# EAGLE library part WE-LAN_749020112B (library WE-LAN)
WE-LAN LAN Transformer 10/100 Base-T Characteristics Power over Ethernet up to 150 Watts and speeds up to 1 Gbit/s Available in SMD Compliant with standards: IEEE 802.3u, IEEE 802.3ab, IEEE 802.3af, IEEE 802.3at and upcoming IEEE 802.3bt Applications Suitable for industrial temperatures from –40 °C up to +125 °C Compatible to Industrial Ethernet systems like EtherCAT or Profinet Compliant with most IC’s for Ethernet applications such as Microchip, Texas Instruments, Broadcom, Linear Technology Hubs, Routers, Switches, IP cameras, IoT applications <https://katalog.we-online.com/media/images/v2/o14800v209%20WE-LAN%20-%20Kopie.jpg> Details see: https://katalog.we-online.com/en/pbs/WE-LAN Created by Ella Wu 2020-03-23 2020 (C) Würth Elektronik
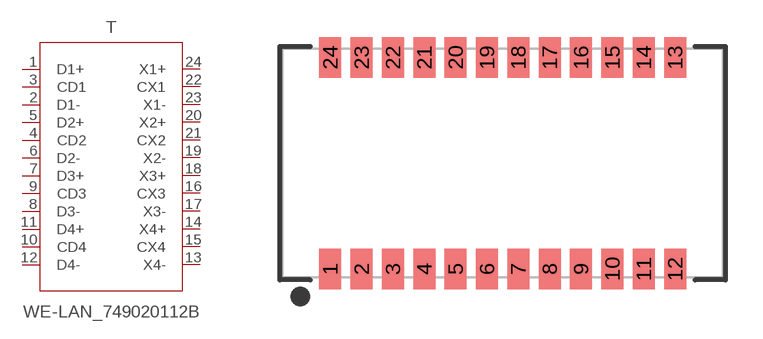
[diagram p42: symbol with the pads of WE-LAN_749020112B; footprint WE-LAN_749020112B]

Designator prefix T

## WE-LAN_749020112B (DATA-RATE: 10/100/1000 Base-T; DATASHEET-URL: https://www.we-online.com/catalog/datasheet/749020112B.pdf; HPLE: No; L: 350uH; MOUNT: SMT; PART-NUMBER: 749020112B; POE: non-PoE; VALUE: 749020112B; VT: 1500 V (RMS))  [WE-LAN_749020112B]
1  D1+  pas
2  D1-  pas
3  CD1  pas
4  CD2  pas
5  D2+  pas
6  D2-  pas
7  D3+  pas
8  D3-  pas
9  CD3  pas
10  CD4  pas
11  D4+  pas
12  D4-  pas
13  X4-  pas
14  X4+  pas
15  CX4  pas
16  CX3  pas
17  X3-  pas
18  X3+  pas
19  X2-  pas
20  X2+  pas
21  CX2  pas
22  CX1  pas
23  X1-  pas
24  X1+  pas

## Footprint WE-LAN_749020112B (pad centres in mm)
WE-LAN LAN Transformer 24pins, pitch 1.27mm
smd 0.89 x 1.65: 1 -6.985,-4.28; 2 -5.715,-4.28; 3 -4.445,-4.28; 4 -3.175,-4.28; 5 -1.905,-4.28; 6 -0.635,-4.28; 7 0.635,-4.28; 8 1.905,-4.28; 9 3.175,-4.28; 10 4.445,-4.28; 11 5.715,-4.28; 12 6.985,-4.28; 13 6.985,4.28; 14 5.715,4.28; 15 4.445,4.28; 16 3.175,4.28; 17 1.905,4.28; 18 0.635,4.28; 19 -0.635,4.28; 20 -1.905,4.28; 21 -3.175,4.28; 22 -4.445,4.28; 23 -5.715,4.28; 24 -6.985,4.28